# Altium footprint library DX07S024WJ3R400.PcbLib: 1 footprints
Each footprint in its own frame and in the unit in brackets; x right, y up, seen from the top. Pads: shape width x height; smd on the part's side, far side on the other; paste and mask are expansions set on the pad; w line width, h text height; cw(c..) or ccw(c..) is an arc to the next point about the centre after c.
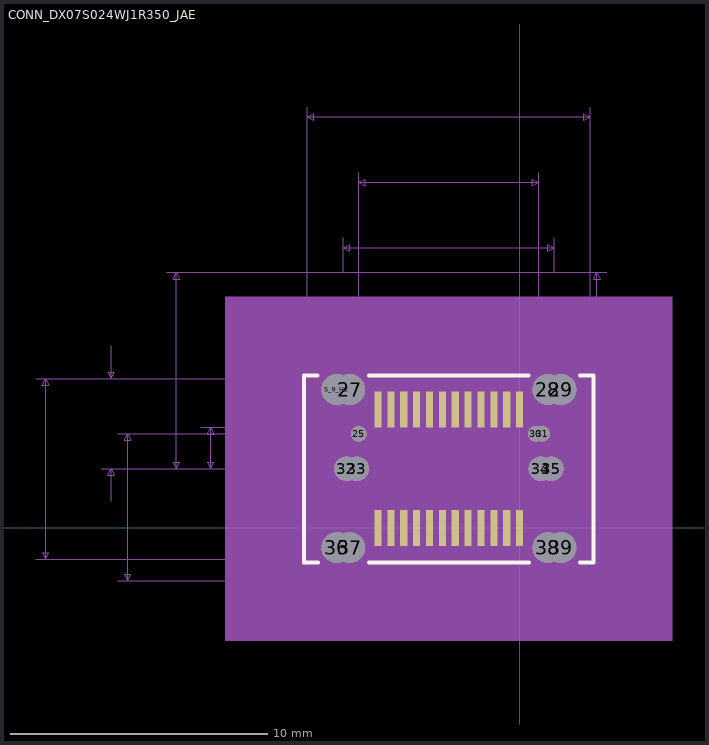
[diagram p0: the footprint, top view; thin cyan lines are the x and y axes]

## CONN_DX07S024WJ1R350_JAE [mil]
pads (39):
  round 24 hole 24: 25(-246.06,143.78)
  round 47.24 hole 47.24: 27(-259.84,211.42) 28(43.3,211.42) 29(62.99,211.42) 36(-279.53,-30.24) 37(-259.84,-30.24) 38(43.3,-30.24) 39(62.99,-30.24) S_9_H2(-279.53,211.42)
  round 23.62 hole 23.62: 30(24.61,143.78) 31(34.45,143.78)
  round 37.4 hole 37.4: 32(-264.76,90.55) 33(-249.01,90.55) 34(32.48,90.55) 35(48.23,90.55)
  rect 11x55 smd paste+0 mask+0: A1(-216.54,181.1) A2(-196.85,181.1) A3(-177.17,181.1) A4(-157.48,181.1) A5(-137.8,181.1) A6(-118.11,181.1) A7(-98.43,181.1) A8(-78.74,181.1) A9(-59.06,181.1) A10(-39.37,181.1) A11(-19.68,181.1) A12(0,181.1) B1(0,0) B2(-19.68,0) B3(-39.37,0) B4(-59.06,0) B5(-78.74,0) B6(-98.43,0) B7(-118.11,0) B8(-137.8,0) B9(-157.48,0) B10(-177.17,0) B11(-196.85,0) B12(-216.54,0)
Top Overlay:
  lines w6: -308.98,233.35 -329.77,233.35 -329.77,-52.65 -308.61,-52.65 ; -230.76,-52.65 14.22,-52.65 ; -230.39,233.35 13.85,233.35 ; 92.08,-52.65 113.23,-52.65 113.23,233.35 92.45,233.35
Bottom Overlay:
  circle w20: c-354.77,181.1 r15
Mechanical 5:
  region: -449.77,353.35 233.23,353.35 233.23,-172.65 -449.77,-172.65
Mechanical 7:
  lines w1: -739.77,-47.65 -324.77,-47.65 ; -739.77,228.35 -324.77,228.35 ; -639.77,90.55 -108.27,90.55 ; -639.77,228.35 -324.77,228.35 ; -624.77,40.55 -624.77,90.55 ; -624.77,278.35 -624.77,228.35 ; -614.53,-80.71 -246.06,-80.71 ; -614.53,143.78 -246.06,143.78 133.21,143.78 ; -539.77,90.55 -108.27,90.55 ; -539.77,390.55 53.15,390.55 53.15,443.35 ; -487.44,90.55 -222.04,90.55 ; -487.44,153.6 -222.04,153.6 ; -424.77,40.55 -424.77,90.55 ; -424.77,140.55 -424.77,90.55 ; -418.19,90.55 -211.04,90.55 ; -418.19,153.6 -211.04,153.6 ; -324.77,643.35 -324.77,228.35 ; -269.69,90.55 133.21,90.55 ; -269.69,443.35 -269.69,390.55 133.21,390.55 ; -266.54,328.35 -216.54,328.35 ; -246.06,-9.45 133.21,-9.45 ; -246.06,90.55 -246.06,543.35 ; -216.54,0 223.23,0 ; -216.54,343.35 -216.54,181.1 223.23,181.1 ; -196.85,181.1 -196.85,343.35 ; -146.85,328.35 -196.85,328.35 ; 29.53,543.35 29.53,90.55 -439.77,90.55 -108.27,90.55 ; 108.23,228.35 108.23,643.35 ; -724.77,-47.65 -719.77,-37.65 -729.77,-37.65 -724.77,-47.65 ; -724.77,-47.65 -724.77,228.35 ; -724.77,228.35 -719.77,218.35 -729.77,218.35 -724.77,228.35 ; -624.77,90.55 -619.77,80.55 -629.77,80.55 -624.77,90.55 ; -624.77,228.35 -619.77,238.35 -629.77,238.35 -624.77,228.35 ; -599.53,-80.71 -594.53,-70.71 -604.53,-70.71 -599.53,-80.71 ; -599.53,-80.71 -599.53,143.78 ; -599.53,143.78 -604.53,133.78 -594.53,133.78 -599.53,143.78 ; -524.77,90.55 -519.77,100.55 -529.77,100.55 -524.77,90.55 ; -524.77,90.55 -524.77,390.55 ; -524.77,390.55 -519.77,380.55 -529.77,380.55 -524.77,390.55 ; -472.44,90.55 -467.44,100.55 -477.44,100.55 -472.44,90.55 ; -472.44,90.55 -472.44,153.6 ; -472.44,153.6 -477.44,143.6 -467.44,143.6 -472.44,153.6 ; -424.77,90.55 -419.77,80.55 -429.77,80.55 -424.77,90.55 ; -424.77,90.55 -419.77,100.55 -429.77,100.55 -424.77,90.55 ; -403.19,90.55 -398.2,100.55 -408.19,100.55 -403.19,90.55 ; -403.19,90.55 -403.19,153.6 ; -403.19,153.6 -408.19,143.6 -398.2,143.6 -403.19,153.6 ; -324.77,628.35 -314.77,623.35 -314.77,633.35 -324.77,628.35 ; -324.77,628.35 108.23,628.35 ; -269.69,428.35 -259.69,423.35 -259.69,433.35 -269.69,428.35 ; -269.69,428.35 53.15,428.35 ; -246.06,528.35 -236.06,523.35 -236.06,533.35 -246.06,528.35 ; -246.06,528.35 29.53,528.35 ; -216.54,328.35 -226.54,323.35 -226.54,333.35 -216.54,328.35 ; -196.85,328.35 -186.85,323.35 -186.85,333.35 -196.85,328.35 ; 29.53,528.35 19.53,523.35 19.53,533.35 29.53,528.35 ; 53.15,428.35 43.15,423.35 43.15,433.35 53.15,428.35 ; 108.23,628.35 98.23,623.35 98.23,633.35 108.23,628.35 ; 118.21,-9.45 123.2,0.55 113.21,0.55 118.21,-9.45 ; 118.21,-9.45 118.21,143.78 ; 118.21,90.55 123.2,100.55 113.21,100.55 118.21,90.55 ; 118.21,90.55 118.21,390.55 ; 118.21,143.78 113.21,133.78 123.21,133.78 118.21,143.78 ; 118.21,390.55 113.21,380.55 123.21,380.55 118.21,390.55 ; 208.23,0 213.23,10 203.23,10 208.23,0 ; 208.23,0 208.23,181.1 ; 208.23,181.1 213.23,171.1 203.23,171.1 208.23,181.1
  text "0.224in/5.702mm" at -807.03,19.04 h25
  text "0.3in/7.62mm" at 138.21,228.05 h25
  text "0.153in/3.892mm" at 138.21,54.67 h25
  text "0.063in/1.602mm" at -610.69,109.58 h25
  text "0.063in/1.602mm" at -679.94,109.58 h25
  text "0.276in/7.01mm" at -919.77,146.95 h25
  text "0.138in/3.5mm" at -807.27,146.95 h25
  text "0.3in/7.62mm" at -694.77,228.05 h25
  text "0in/0mm" at -532.27,78.05 h25
  text "0.181in/4.6mm" at 228.23,78.05 h25
  text "0.433in/10.998mm" at -208.27,648.35 h25
  text "0.276in/7mm" at -177.02,548.35 h25
  text "0.323in/8.2mm" at -189.52,448.35 h25
  text "0.02in/0.5mm" at -281.69,348.35 h25
  text "Alt Padstyle 2: OX90Y60D30P" at -445.77,-722.65 h50
  text "Alt Padstyle 1: OX60Y90D30P" at -445.77,-647.65 h50
  text "Right Mtg Padstyle: RX33Y24D0T" at -483.27,-572.65 h50
  text "Left Mtg Padstyle: RX53Y37D0T" at -470.77,-497.65 h50
  text "3rd Mtg Padstyle: RX67Y47D0T" at -458.27,-422.65 h50
  text "2nd Mtg Padstyle: RX67Y47D0T" at -458.27,-347.65 h50
  text "1st Mtg Padstyle: EX24Y24D24P" at -470.77,-272.65 h50
  text "Default Padstyle: RX55Y11D0T" at -458.27,-197.65 h50
Mechanical 13:
  circle w20: c-216.54,256.1 r15
  lines w1: -324.77,-47.65 -324.77,228.35 108.23,228.35 108.23,-47.65 -324.77,-47.65
Mechanical 15:
  region: 108.23,228.35 -324.77,228.35 -324.77,-47.65 108.23,-47.65
  region: 118.23,238.35 -334.77,238.35 -334.77,-57.65 118.23,-57.65
  lines w6: -334.77,-57.65 118.23,-57.65 118.23,238.35 -334.77,238.35 -334.77,-57.65
Multi-Layer:
  lines w23.62: 24.61,143.78 34.45,143.78
  lines w37.4: -264.76,90.55 -249.01,90.55 ; 32.48,90.55 48.23,90.55
  lines w47.24: -279.53,-30.24 -259.84,-30.24 ; -279.53,211.42 -259.84,211.42 ; 43.3,-30.24 62.99,-30.24 ; 43.3,211.42 62.99,211.42
3D body: height 10, standoff 0, extent 0,0 10,10